# Altium schematic symbol library bq24741.SchLib: 1 symbol
Pins are listed as number, name and electrical type; pins without a type are passive.

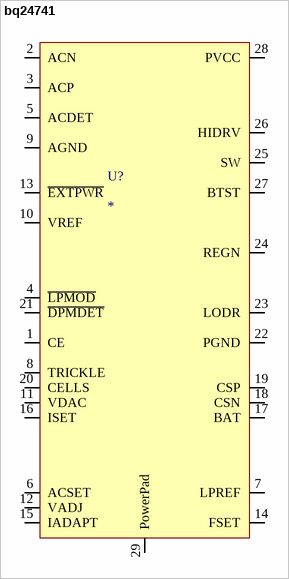
[diagram p0: symbol bq24741]

## bq24741
designator U?
Li-Ion or Li-Polymer Battery Charger with Low Iq and Accurate Trickle Charge; Manufacturer: Texas Instruments; Part No.: bq24741; Vendor: Digi-Key; Price Est.: $8.00
pins: 1 CE, 2 ACN, 3 ACP, 4 ~{LPMOD}, 5 ACDET, 6 ACSET, 7 LPREF, 8 TRICKLE, 9 AGND, 10 VREF, 11 VDAC, 12 VADJ, 13 ~{EXTPWR}, 14 FSET, 15 IADAPT, 16 ISET, 17 BAT, 18 CSN, 19 CSP, 20 CELLS, 21 ~{DPMDET}, 22 PGND, 23 LODR, 24 REGN, 25 SW, 26 HIDRV, 27 BTST, 28 PVCC, 29 PowerPad